# Altium footprint library SWITCH_SMD.PcbLib: 2 footprints
Each footprint in its own frame and in the unit in brackets; x right, y up, seen from the top. Pads: shape width x height; smd on the part's side, far side on the other; paste and mask are expansions set on the pad; w line width, h text height; cw(c..) or ccw(c..) is an arc to the next point about the centre after c.
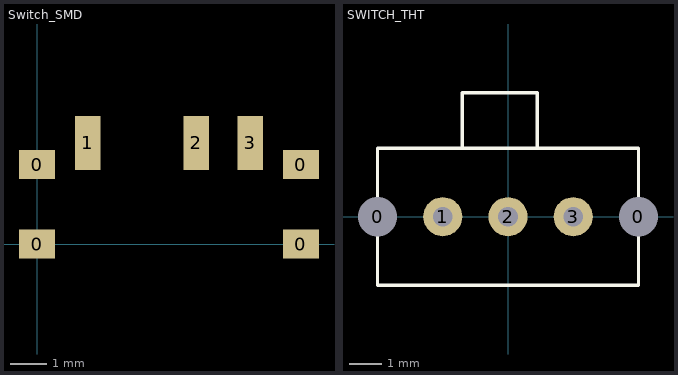
[diagram p0: the footprints below, top view; thin cyan lines are the x and y axes]

## Switch_SMD [mm]
pads (7):
  rect 1x0.8 smd: 0(0,0) 0(0,2.2) 0(7.3,0) 0(7.3,2.2)
  rect 0.7x1.5 smd: 1(1.4,2.8) 2(4.4,2.8) 3(5.9,2.8)
3D body: height -0.5, standoff -1.9, extent 0.25,-1.9 6.95,2.2

## SWITCH_THT [mm]
pads (5):
  round 1 hole 1.2: 0(-4,0) 0(4,0)
  round 1.2 hole 0.6: 1(-2,0) 2(0,0) 3(2,0)
Top Overlay:
  lines w0.1: -1.4,2.1 -1.4,3.8 0.9,3.8 0.9,2.1 ; -4,-2.1 4,-2.1 4,2.1 -4,2.1 -4,-2.1